# Altium footprint library Seeed.PcbLib: 2 footprints
Each footprint in its own frame and in the unit in brackets; x right, y up, seen from the top. Pads: shape width x height; smd on the part's side, far side on the other; paste and mask are expansions set on the pad; w line width, h text height; cw(c..) or ccw(c..) is an arc to the next point about the centre after c.
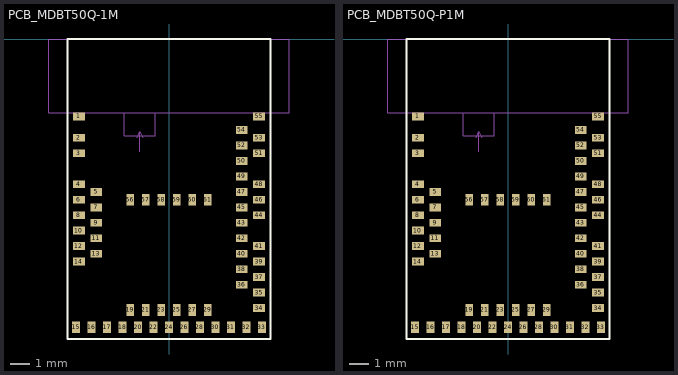
[diagram p0: the footprints below, top view; thin cyan lines are the x and y axes]

## PCB_MDBT50Q-1M [mm]
pads (61):
  rect 0.6x0.4 smd: 1(-4.65,-4) 2(-4.65,-5.1) 3(-4.65,-5.9) 4(-4.65,-7.5) 5(-3.75,-7.9) 6(-4.65,-8.3) 7(-3.75,-8.7) 8(-4.65,-9.1) 9(-3.75,-9.5) 10(-4.65,-9.9) 11(-3.75,-10.3) 12(-4.65,-10.7) 13(-3.75,-11.1) 14(-4.65,-11.5) 34(4.65,-13.9) 35(4.65,-13.1) 36(3.75,-12.7) 37(4.65,-12.3) 38(3.75,-11.9) 39(4.65,-11.5) 40(3.75,-11.1) 41(4.65,-10.7) 42(3.75,-10.3) 43(3.75,-9.5) 44(4.65,-9.1) 45(3.75,-8.7) 46(4.65,-8.3) 47(3.75,-7.9) 48(4.65,-7.5) 49(3.75,-7.1) 50(3.75,-6.3) 51(4.65,-5.9) 52(3.75,-5.5) 53(4.65,-5.1) 54(3.75,-4.7) 55(4.65,-4)
  rect 0.4x0.6 smd: 15(-4.8,-14.9) 16(-4,-14.9) 17(-3.2,-14.9) 18(-2.4,-14.9) 19(-2,-14) 20(-1.6,-14.9) 21(-1.2,-14) 22(-0.8,-14.9) 23(-0.4,-14) 24(0,-14.9) 25(0.4,-14) 26(0.8,-14.9) 27(1.2,-14) 28(1.6,-14.9) 29(2,-14) 30(2.4,-14.9) 31(3.2,-14.9) 32(4,-14.9) 33(4.8,-14.9) 56(-2,-8.3) 57(-1.2,-8.3) 58(-0.4,-8.3) 59(0.4,-8.3) 60(1.2,-8.3) 61(2,-8.3)
Top Overlay:
  lines w0.1: -5.25,-15.5 -5.25,0 0,0 5.25,0 5.25,-15.5 -5.25,-15.5
Mechanical 2:
  lines w0.05: -6.2,-3.8 6.2,-3.8 6.2,0 -6.2,0 -6.2,-3.8
  text "No ground pad" at -2.801,-1.775 h0.45
Mechanical 3:
  lines w0.05: -1.65,-5.098 -1.5,-4.798 ; -1.5,-5.823 -1.5,-4.798 ; -1.35,-5.098 -1.5,-4.798 ; -2.3,-5 -0.7,-5 -0.7,-3.8 -2.3,-3.8 -2.3,-5
  text "Toplayer no ground pad" at -3.4,-6.225 h0.3
3D body "MDBT50Q-1M.step": height 2.2, standoff 0, extent -5.25,-15.497 5.25,0.003
3D body: height 1.27, standoff 0, extent -0.508,-1.905 -0.508,-1.905

## PCB_MDBT50Q-P1M [mm]
pads (61):
  rect 0.6x0.4 smd: 1(-4.65,-4) 2(-4.65,-5.1) 3(-4.65,-5.9) 4(-4.65,-7.5) 5(-3.75,-7.9) 6(-4.65,-8.3) 7(-3.75,-8.7) 8(-4.65,-9.1) 9(-3.75,-9.5) 10(-4.65,-9.9) 11(-3.75,-10.3) 12(-4.65,-10.7) 13(-3.75,-11.1) 14(-4.65,-11.5) 34(4.65,-13.9) 35(4.65,-13.1) 36(3.75,-12.7) 37(4.65,-12.3) 38(3.75,-11.9) 39(4.65,-11.5) 40(3.75,-11.1) 41(4.65,-10.7) 42(3.75,-10.3) 43(3.75,-9.5) 44(4.65,-9.1) 45(3.75,-8.7) 46(4.65,-8.3) 47(3.75,-7.9) 48(4.65,-7.5) 49(3.75,-7.1) 50(3.75,-6.3) 51(4.65,-5.9) 52(3.75,-5.5) 53(4.65,-5.1) 54(3.75,-4.7) 55(4.65,-4)
  rect 0.4x0.6 smd: 15(-4.8,-14.9) 16(-4,-14.9) 17(-3.2,-14.9) 18(-2.4,-14.9) 19(-2,-14) 20(-1.6,-14.9) 21(-1.2,-14) 22(-0.8,-14.9) 23(-0.4,-14) 24(0,-14.9) 25(0.4,-14) 26(0.8,-14.9) 27(1.2,-14) 28(1.6,-14.9) 29(2,-14) 30(2.4,-14.9) 31(3.2,-14.9) 32(4,-14.9) 33(4.8,-14.9) 56(-2,-8.3) 57(-1.2,-8.3) 58(-0.4,-8.3) 59(0.4,-8.3) 60(1.2,-8.3) 61(2,-8.3)
Top Overlay:
  lines w0.1: -5.25,-15.5 5.25,-15.5 5.25,0 0,0 -5.25,0 -5.25,-15.5
Mechanical 2:
  lines w0.05: -6.2,-3.8 -6.2,0 6.2,0 6.2,-3.8 -6.2,-3.8
  text "No ground pad" at -2.801,-1.775 h0.45
Mechanical 3:
  lines w0.05: -1.65,-5.098 -1.5,-4.798 ; -1.5,-5.823 -1.5,-4.798 ; -1.35,-5.098 -1.5,-4.798 ; -2.3,-5 -2.3,-3.8 -0.7,-3.8 -0.7,-5 -2.3,-5
  text "Toplayer no ground pad" at -3.4,-6.225 h0.3
3D body: height 1.27, standoff 0, extent -0.508,-1.905 -0.508,-1.905
3D body "MDBT50Q-P1M.step": height 2, standoff 0, extent -5.25,-15.497 5.25,0.003